# EAGLE library part PTS1_5/12-7_5-H (library C3-Connector)
PHEONIX PTS 1,5/12-7,5-H PCB Terminal Block - 12 Position - 7.5mm Pitch - Spring Cage
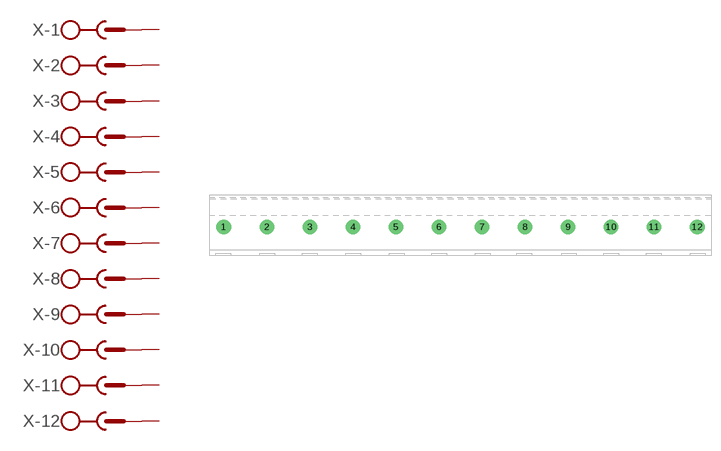
[diagram p15: symbol with the pads of PTS1_5/12-7_5-H; footprint PTS1_5/12-7_5-H]

Designator prefix X; gates -1=SK -2=SK -3=SK -4=SK -5=SK -6=SK -7=SK -8=SK -9=SK -10=SK -11=SK -12=SK

## PTS1_5/12-7_5-H  [PTS1_5/12-7_5-H]
1  -1:SK  pas
2  -2:SK  pas
3  -3:SK  pas
4  -4:SK  pas
5  -5:SK  pas
6  -6:SK  pas
7  -7:SK  pas
8  -8:SK  pas
9  -9:SK  pas
10  -10:SK  pas
11  -11:SK  pas
12  -12:SK  pas

## Footprint PTS1_5/12-7_5-H (pad centres in mm)
PHEONIX PTS 1,5/12-7,5-H PCB Terminal Block - 12 Position - 7.5mm Pitch
drill 1.2 pad 2.54: 1 -41.25,0; 2 -33.75,0; 3 -26.25,0; 4 -18.75,0; 5 -11.25,0; 6 -3.75,0; 7 3.75,0; 8 11.25,0; 9 18.75,0; 10 26.25,0; 11 33.75,0; 12 41.25,0